# EAGLE library part MICROSD-TRANSFLASH (library stutz-components-library)
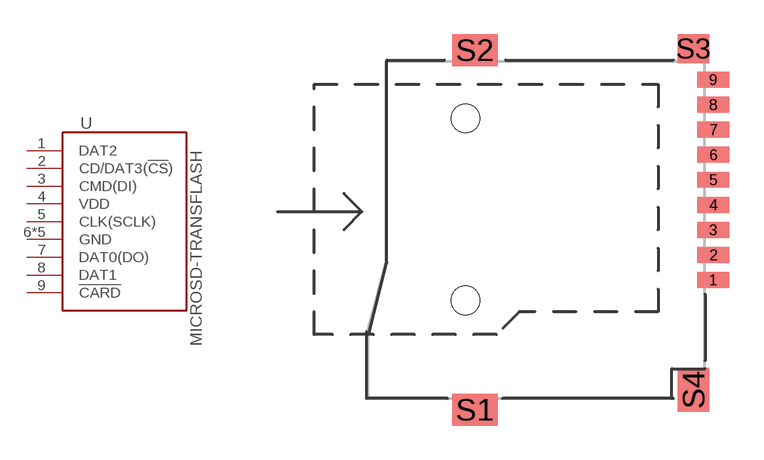
[diagram p24: symbol with the pads of MICROSD-TRANSFLASH; footprint MICROSD-TRANSFLASH]

Designator prefix -

## MICROSD-TRANSFLASH  [MICROSD-TRANSFLASH]
1  DAT2
2  CD/DAT3(!CS!)
3  CMD(DI)
4  VDD  pwr
5  CLK(SCLK)  in
6  GND  pwr
7  DAT0(DO)
8  DAT1
9  !CARD  pas
S1  GND  pwr
S2  GND  pwr
S3  GND  pwr
S4  GND  pwr

## Footprint MICROSD-TRANSFLASH (pad centres in mm)
smd 1.4 x 0.7: 1 15.22,5.2; 2 15.22,6.3; 3 15.22,7.4; 4 15.22,8.5; 5 15.22,9.6; 6 15.22,10.7; 7 15.22,11.8; 8 15.22,12.9; 9 15.22,14
smd 2 x 1.4: S1 4.75,-0.5; S2 4.75,15.3
smd 1.4 x 1.28: S3 14.35,15.36
smd 1.4 x 1.95: S4 14.35,0.375
hole 1.25 at 4.35,4.3
hole 1.25 at 4.35,12.3